# Altium integrated library 691382040002.IntLib: 1 symbol
Pins are listed as number, name and electrical type; pins without a type are passive.

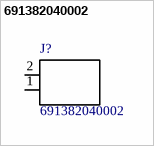
[diagram p0: symbol 691382040002]

## 691382040002
designator J?
TERM BLOCK HDR 2POS 90DEG 2.5MM; MF: Wurth Electronics; Package: None; Price: None; MP: 691382040002; Availability: Unavailable; SnapEDA_Link: https://www.snapeda.com/parts/691382040002/Wurth%20Electronics%20Inc./view-part/3623693/?ref=snap; Value: *
footprint *691382040002
pins: 1 2, 2 1